# Altium schematic symbol library 564КП1.Schlib: 1 symbol
Pins are listed as number, name and electrical type; pins without a type are passive.

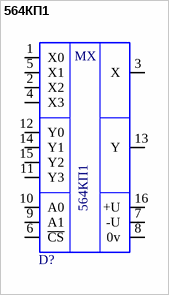
[diagram p0: symbol 564КП1]

## 564КП1
designator D?
Dual 4-1 multiplexer
footprint 564КP1
footprint 564КП1
pins: 1 X0, 2 X2, 3 X, 4 X3, 5 X1, 6 ~{CS}, 7 -U, 8 0v, 9 A1, 10 A0, 11 Y3, 12 Y0, 13 Y, 14 Y1, 15 Y2, 16 +U
text: MX